# Altium footprint library EMF32QFN48PcbLib.PcbLib: 1 footprints
Each footprint in its own frame and in the unit in brackets; x right, y up, seen from the top. Pads: shape width x height; smd on the part's side, far side on the other; paste and mask are expansions set on the pad; w line width, h text height; cw(c..) or ccw(c..) is an arc to the next point about the centre after c.
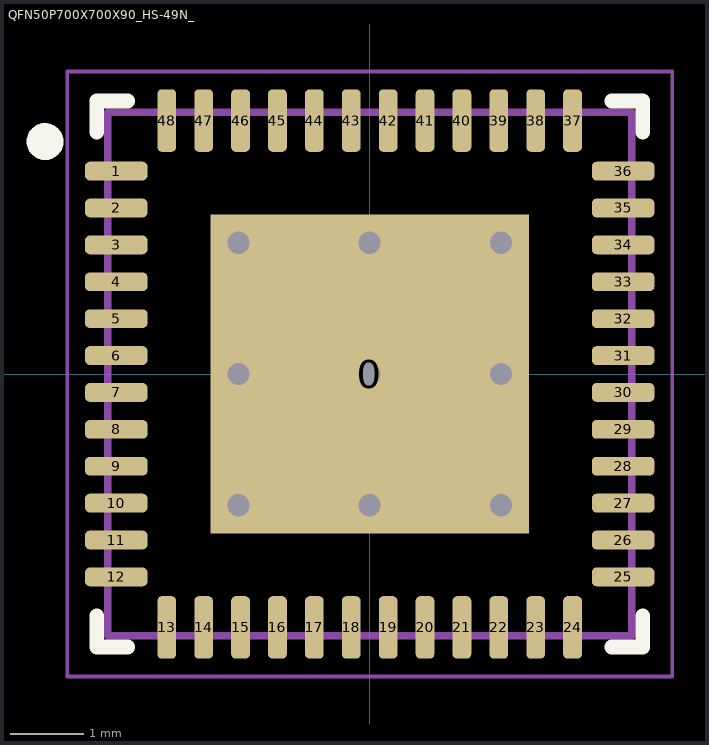
[diagram p0: the footprint, top view; thin cyan lines are the x and y axes]

## QFN50P700X700X90_HS-49N_ [mm] "QFN, 48-Leads, Body 7.00x7.00mm, Pitch 0.50mm, Thermal Pad 5.75x5.75mm, IPC Medium Density"
height 0.9
pads (49):
  rect 4.318x4.318 smd paste-2.54: 0(0,0)
  rrect50% 0.847x0.254 smd mask+0.051: 1(-3.435,2.75) 2(-3.435,2.25) 3(-3.435,1.75) 4(-3.435,1.25) 5(-3.435,0.75) 6(-3.435,0.25) 7(-3.435,-0.25) 8(-3.435,-0.75) 9(-3.435,-1.25) 10(-3.435,-1.75) 11(-3.435,-2.25) 12(-3.435,-2.75) 25(3.435,-2.75) 26(3.435,-2.25) 27(3.435,-1.75) 28(3.435,-1.25) 29(3.435,-0.75) 30(3.435,-0.25) 31(3.435,0.25) 32(3.435,0.75) 33(3.435,1.25) 34(3.435,1.75) 35(3.435,2.25) 36(3.435,2.75)
  rrect50% 0.254x0.847 smd mask+0.051: 13(-2.75,-3.435) 14(-2.25,-3.435) 15(-1.75,-3.435) 16(-1.25,-3.435) 17(-0.75,-3.435) 18(-0.25,-3.435) 19(0.25,-3.435) 20(0.75,-3.435) 21(1.25,-3.435) 22(1.75,-3.435) 23(2.25,-3.435) 24(2.75,-3.435) 37(2.75,3.435) 38(2.25,3.435) 39(1.75,3.435) 40(1.25,3.435) 41(0.75,3.435) 42(0.25,3.435) 43(-0.25,3.435) 44(-0.75,3.435) 45(-1.25,3.435) 46(-1.75,3.435) 47(-2.25,3.435) 48(-2.75,3.435)
via -1.778,0 diameter 0.5 hole 0.3
via -1.778,1.778 diameter 0.5 hole 0.3
via -1.778,-1.778 diameter 0.5 hole 0.3
via 0,-1.778 diameter 0.5 hole 0.3
via 0,1.778 diameter 0.5 hole 0.3
via 1.778,1.778 diameter 0.5 hole 0.3
via 1.778,0 diameter 0.5 hole 0.3
via 1.778,-1.778 diameter 0.5 hole 0.3
via 0,0 diameter 0.5 hole 0.3
Top Overlay:
  circle w0.25: c-4.4,3.15 r0.125
  lines w0.2: -3.7,-3.28 -3.7,-3.7 -3.28,-3.7 ; -3.7,3.28 -3.7,3.7 -3.28,3.7 ; 3.28,-3.7 3.7,-3.7 3.7,-3.28 ; 3.28,3.7 3.7,3.7 3.7,3.28
Top Paste:
  region: -0.127,-0.127 -1.651,-0.127 -1.651,-1.778 -0.127,-1.778
  region: 1.651,-0.127 0.127,-0.127 0.127,-1.778 1.651,-1.778
  region: -0.127,1.778 -1.651,1.778 -1.651,0.127 -0.127,0.127
  region: 1.651,1.778 0.127,1.778 0.127,0.127 1.651,0.127
Mechanical 13:
  lines w0.1: -3.55,-3.55 -3.55,3.55 3.55,3.55 3.55,-3.55 -3.55,-3.55
Mechanical 15:
  lines w0.05: -4.1,-4.1 -4.1,4.1 4.1,4.1 4.1,-4.1 -4.1,-4.1
  lines w0.1: -0.5,0 0.5,0 ; 0,-0.5 0,0.5
3D body: height 0.9, standoff 0, extent -3.601,-3.525 3.499,3.575